# EAGLE library part LAYOUT-BEAGLEBOARD (library launch-tower)
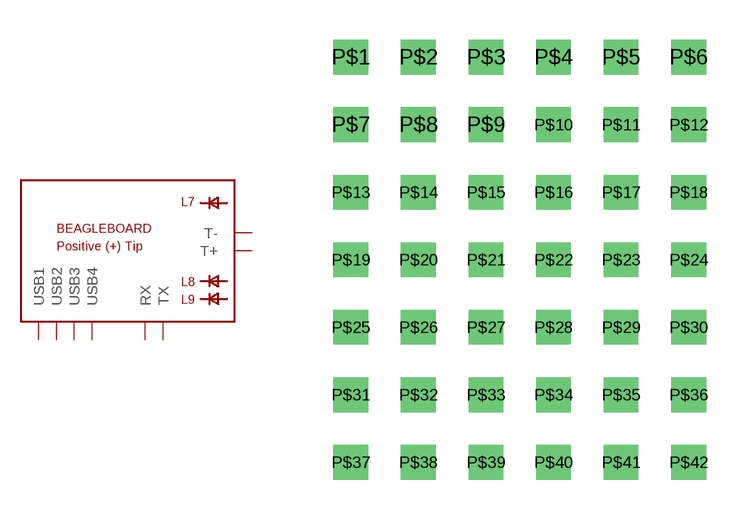
[diagram p4: symbol with the pads of LAYOUT-PACKAGE; footprint LAYOUT-PACKAGE]

Designator prefix -

## LAYOUT-BEAGLEBOARD  [LAYOUT-PACKAGE]
P$1  T+
P$2  T-
P$3  USB1
P$4  USB2
P$5  USB3
P$6  USB4
P$7  RX
P$8  TX

## Footprint LAYOUT-PACKAGE (pad centres in mm)
drill 0.8 square: P$1 -11.43,3.81; P$2 -8.89,3.81; P$3 -6.35,3.81; P$4 -3.81,3.81; P$5 -1.27,3.81; P$6 1.27,3.81; P$7 -11.43,1.27; P$8 -8.89,1.27; P$9 -6.35,1.27; P$10 -3.81,1.27; P$11 -1.27,1.27; P$12 1.27,1.27; P$13 -11.43,-1.27; P$14 -8.89,-1.27; P$15 -6.35,-1.27; P$16 -3.81,-1.27; P$17 -1.27,-1.27; P$18 1.27,-1.27; P$19 -11.43,-3.81; P$20 -8.89,-3.81; P$21 -6.35,-3.81; P$22 -3.81,-3.81; P$23 -1.27,-3.81; P$24 1.27,-3.81; P$25 -11.43,-6.35; P$26 -8.89,-6.35; P$27 -6.35,-6.35; P$28 -3.81,-6.35; P$29 -1.27,-6.35; P$30 1.27,-6.35; P$31 -11.43,-8.89; P$32 -8.89,-8.89; P$33 -6.35,-8.89; P$34 -3.81,-8.89; P$35 -1.27,-8.89; P$36 1.27,-8.89; P$37 -11.43,-11.43; P$38 -8.89,-11.43; P$39 -6.35,-11.43; P$40 -3.81,-11.43; P$41 -1.27,-11.43; P$42 1.27,-11.43